# EAGLE library part HEADER-1X6 (library pedalier)
Header 1x6 Manufacturer: 3M Product Nr: 961106-6300-AR-PR Digikey: 3M9488CT-ND
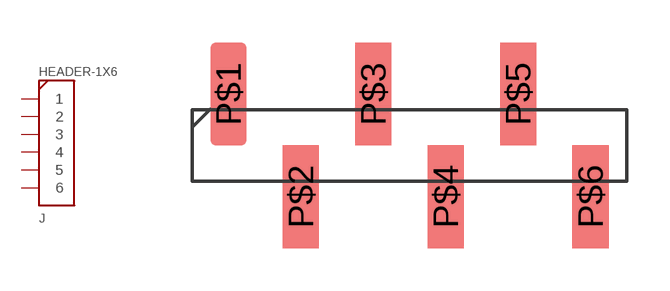
[diagram p3: symbol with the pads of HEADER-1X6; footprint HEADER-1X6]

Designator prefix J

## HEADER-1X6  [HEADER-1X6]
P$1  1
P$2  2
P$3  3
P$4  4
P$5  5
P$6  6

## Footprint HEADER-1X6 (pad centres in mm)
smd 1.27 x 3.6: P$1 -6.35,1.8; P$2 -3.81,-1.8; P$3 -1.27,1.8; P$4 1.27,-1.8; P$5 3.81,1.8; P$6 6.35,-1.8